# EAGLE library part OPT3001 (library magzor)
TI OPT3001 ambient light sensor
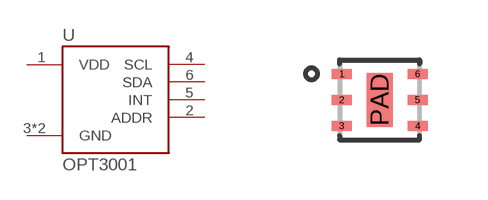
[diagram p43: symbol with the pads of USON6; footprint USON6]

Designator prefix U

## OPT3001  [USON6]
1  VDD
2  ADDR
3  GND
4  SCL
5  INT
6  SDA
PAD  GND

## Footprint USON6 (pad centres in mm)
smd 0.5 x 0.25: 1 -0.95,0.65; 2 -0.95,0; 3 -0.95,-0.65; 4 0.95,-0.65; 5 0.95,0; 6 0.95,0.65
smd 0.65 x 1.35: PAD 0,0